# Altium footprint library DIP-CN  0607.PcbLib: 329 footprints (part 19 of 21)
Each footprint in its own frame and in the unit in brackets; x right, y up, seen from the top. Pads: shape width x height; smd on the part's side, far side on the other; paste and mask are expansions set on the pad; w line width, h text height; cw(c..) or ccw(c..) is an arc to the next point about the centre after c.
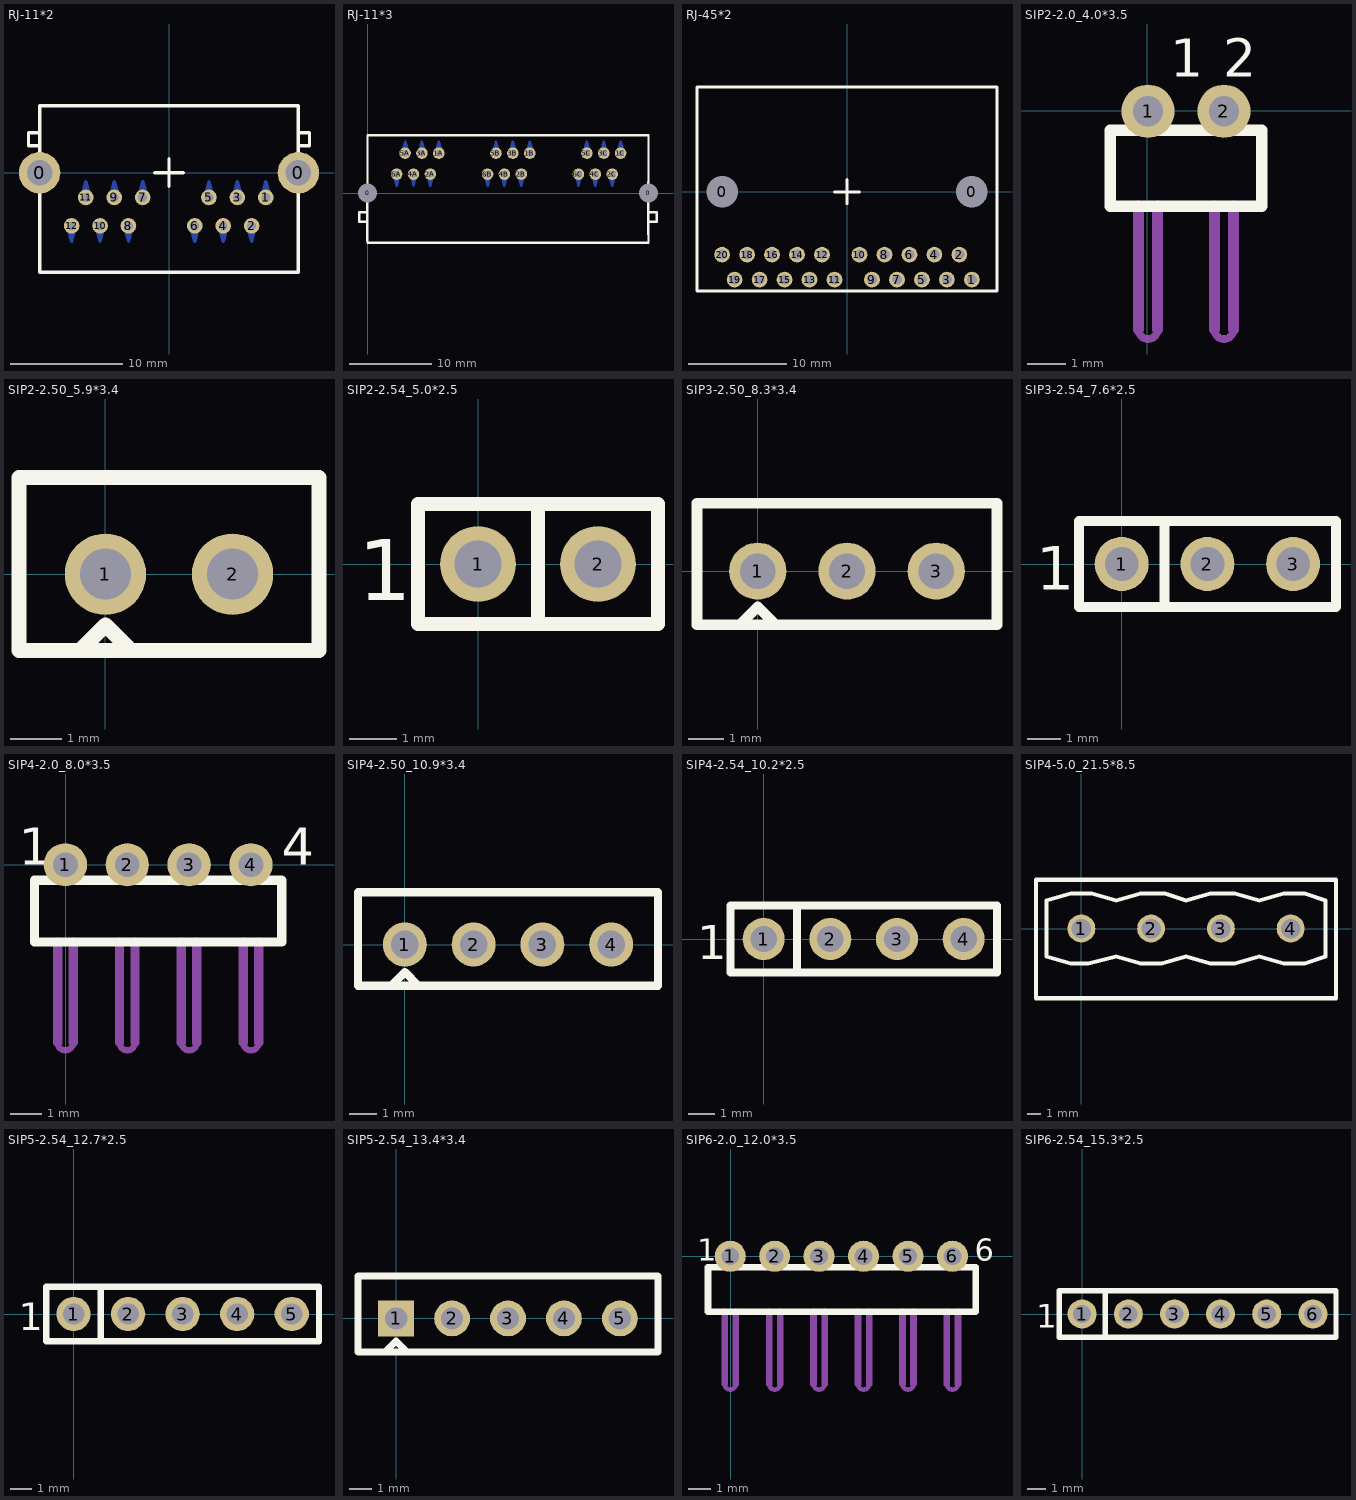
[diagram p18: the footprints below, top view; thin cyan lines are the x and y axes]

## RJ-11*2 [mm]
pads (14):
  round 3.7 hole 2.3: 0(-11.55,0) 0(11.55,0)
  round 1.4 hole 0.8: 1(8.648,-2.204) 2(7.378,-4.744) 3(6.108,-2.204) 4(4.838,-4.744) 5(3.568,-2.204) 6(2.298,-4.744) 7(-2.352,-2.204) 8(-3.622,-4.744) 9(-4.892,-2.204) 10(-6.162,-4.744) 11(-7.432,-2.204) 12(-8.702,-4.744)
BottomLayer:
  lines w0.3: -9.108,-4.744 -8.702,-6.144 ; -8.702,-4.744 -8.702,-6.144 ; -8.321,-4.744 -8.702,-6.144 ; -7.813,-2.204 -7.432,-0.804 ; -7.432,-2.204 -7.432,-0.804 ; -7.026,-2.204 -7.432,-0.804 ; -6.568,-4.744 -6.162,-6.144 ; -6.162,-4.744 -6.162,-6.144 ; -5.781,-4.744 -6.162,-6.144 ; -5.273,-2.204 -4.892,-0.804 ; -4.892,-2.204 -4.892,-0.804 ; -4.486,-2.204 -4.892,-0.804 ; -4.028,-4.744 -3.622,-6.144 ; -3.622,-4.744 -3.622,-6.144 ; -3.241,-4.744 -3.622,-6.144 ; -2.733,-2.204 -2.352,-0.804 ; -2.352,-2.204 -2.352,-0.804 ; -1.946,-2.204 -2.352,-0.804 ; 1.892,-4.744 2.298,-6.144 ; 2.298,-4.744 2.298,-6.144 ; 2.679,-4.744 2.298,-6.144 ; 3.187,-2.204 3.568,-0.804 ; 3.568,-2.204 3.568,-0.804 ; 3.974,-2.204 3.568,-0.804 ; 4.432,-4.744 4.838,-6.144 ; 4.838,-4.744 4.838,-6.144 ; 5.219,-4.744 4.838,-6.144 ; 5.727,-2.204 6.108,-0.804 ; 6.108,-2.204 6.108,-0.804 ; 6.514,-2.204 6.108,-0.804 ; 6.972,-4.744 7.378,-6.144 ; 7.378,-4.744 7.378,-6.144 ; 7.759,-4.744 7.378,-6.144 ; 8.267,-2.204 8.648,-0.804 ; 8.648,-2.204 8.648,-0.804 ; 9.054,-2.204 8.648,-0.804
TopOverlay:
  lines w0.3: -11.55,2.425 -12.55,2.425 -12.55,3.575 -11.55,3.575 ; -1.27,0 1.27,0 ; 0,-1.2 0,1.27 ; 11.55,2.425 12.55,2.425 12.55,3.575 11.55,3.575 ; -11.55,-8.9 11.55,-8.9 11.55,6 -11.55,6 -11.55,-8.9
BottomOverlay:
  lines w0.3: -8.702,-0.705 -8.702,-3.474 -2.352,-3.474 -2.352,-6.09 ; -7.432,-6.09 -7.432,-3.474 ; -6.162,-3.474 -6.162,-0.731 ; -4.892,-6.09 -4.892,-3.474 ; -3.622,-3.474 -3.622,-0.782 ; 2.298,-0.705 2.298,-3.474 8.648,-3.474 8.648,-6.09 ; 3.568,-6.09 3.568,-3.474 ; 4.838,-3.474 4.838,-0.731 ; 6.108,-6.09 6.108,-3.474 ; 7.378,-3.474 7.378,-0.782
BottomSolder:
  lines w0.3: -9.134,-4.744 -8.702,-6.144 ; -8.702,-4.744 -8.702,-6.144 ; -8.27,-4.744 -8.702,-6.144 ; -7.864,-2.204 -7.432,-0.804 ; -7.432,-2.204 -7.432,-0.804 ; -7,-2.204 -7.432,-0.804 ; -6.594,-4.744 -6.162,-6.144 ; -6.162,-4.744 -6.162,-6.144 ; -5.73,-4.744 -6.162,-6.144 ; -5.324,-2.204 -4.892,-0.804 ; -4.892,-2.204 -4.892,-0.804 ; -4.46,-2.204 -4.892,-0.804 ; -4.054,-4.744 -3.622,-6.144 ; -3.622,-4.744 -3.622,-6.144 ; -3.19,-4.744 -3.622,-6.144 ; -2.784,-2.204 -2.352,-0.804 ; -2.352,-2.204 -2.352,-0.804 ; -1.92,-2.204 -2.352,-0.804 ; 1.866,-4.744 2.298,-6.144 ; 2.298,-4.744 2.298,-6.144 ; 2.73,-4.744 2.298,-6.144 ; 3.136,-2.204 3.568,-0.804 ; 3.568,-2.204 3.568,-0.804 ; 4,-2.204 3.568,-0.804 ; 4.406,-4.744 4.838,-6.144 ; 4.838,-4.744 4.838,-6.144 ; 5.27,-4.744 4.838,-6.144 ; 5.676,-2.204 6.108,-0.804 ; 6.108,-2.204 6.108,-0.804 ; 6.54,-2.204 6.108,-0.804 ; 6.946,-4.744 7.378,-6.144 ; 7.378,-4.744 7.378,-6.144 ; 7.81,-4.744 7.378,-6.144 ; 8.216,-2.204 8.648,-0.804 ; 8.648,-2.204 8.648,-0.804 ; 9.08,-2.204 8.648,-0.804

## RJ-11*3 [mm]
pads (20):
  round 1 hole 2.3: 0(0,0) 0(34,0)
  round 1.4 hole 0.8: 1A(8.625,4.84) 1B(19.625,4.84) 1C(30.625,4.84) 2A(7.605,2.3) 2B(18.605,2.3) 2C(29.605,2.3) 3A(6.585,4.84) 3B(17.585,4.84) 3C(28.585,4.84) 4A(5.565,2.3) 4B(16.565,2.3) 4C(27.565,2.3) 5A(4.545,4.84) 5B(15.545,4.84) 5C(26.545,4.84) 6A(3.525,2.3) 6B(14.525,2.3) 6C(25.525,2.3)
BottomLayer:
  lines w0.3: 3.119,2.3 3.525,0.9 ; 3.525,2.3 3.525,0.9 ; 3.906,2.3 3.525,0.9 ; 4.164,4.84 4.19,4.937 4.545,6.24 ; 4.545,4.84 4.545,6.24 ; 4.951,4.84 4.92,4.949 4.545,6.24 ; 5.159,2.3 5.565,0.9 ; 5.565,2.3 5.565,0.9 ; 5.946,2.3 5.565,0.9 ; 6.204,4.84 6.585,6.24 ; 6.585,4.84 6.585,6.24 ; 6.991,4.84 6.585,6.24 ; 7.199,2.3 7.605,0.9 ; 7.605,2.3 7.605,0.9 ; 7.986,2.3 7.605,0.9 ; 8.244,4.84 8.625,6.24 ; 8.625,4.84 8.625,6.24 ; 9.031,4.84 8.625,6.24 ; 14.119,2.3 14.525,0.9 ; 14.525,2.3 14.525,0.9 ; 14.906,2.3 14.525,0.9 ; 15.164,4.84 15.19,4.937 15.545,6.24 ; 15.545,4.84 15.545,6.24 ; 15.951,4.84 15.92,4.949 15.545,6.24 ; 16.159,2.3 16.565,0.9 ; 16.565,2.3 16.565,0.9 ; 16.946,2.3 16.565,0.9 ; 17.204,4.84 17.585,6.24 ; 17.585,4.84 17.585,6.24 ; 17.991,4.84 17.585,6.24 ; 18.199,2.3 18.605,0.9 ; 18.605,2.3 18.605,0.9 ; 18.986,2.3 18.605,0.9 ; 19.244,4.84 19.625,6.24 ; 19.625,4.84 19.625,6.24 ; 20.031,4.84 19.625,6.24 ; 25.119,2.3 25.525,0.9 ; 25.525,2.3 25.525,0.9 ; 25.906,2.3 25.525,0.9 ; 26.164,4.84 26.545,6.24 ; 26.545,4.84 26.545,6.24 ; 26.951,4.84 26.545,6.24 ; 27.159,2.3 27.565,0.9 ; 27.565,2.3 27.565,0.9 ; 27.946,2.3 27.565,0.9 ; 28.204,4.84 28.23,4.937 28.585,6.24 ; 28.585,4.84 28.585,6.24 ; 28.991,4.84 28.96,4.949 28.585,6.24 ; 29.199,2.3 29.605,0.9 ; 29.605,2.3 29.605,0.9 ; 29.986,2.3 29.605,0.9 ; 30.244,4.84 30.625,6.24 ; 30.625,4.84 30.625,6.24 ; 31.031,4.84 30.625,6.24
TopOverlay:
  lines w0.3: -0.019,-3.479 -1,-3.479 -1,-2.329 -0.001,-2.329 ; 0,-4.4 0,-2.9 ; 34.009,-3.479 35,-3.479 35,-2.329 ; 34.011,-2.329 34.997,-2.329 ; -0.014,-5.724 0,7 34,7 33.997,-4.2 34,-6 0,-6 -0.014,-5.724
BottomOverlay:
  lines w0.3: 3.025,3.565 9.025,3.565 ; 4.541,0.673 4.543,3.565 ; 5.557,3.585 5.559,6.477 ; 6.573,0.673 6.575,3.565 ; 7.589,3.585 7.591,6.477 ; 14.025,3.565 20.025,3.565 ; 15.541,0.673 15.543,3.565 ; 16.557,3.585 16.559,6.477 ; 17.573,0.673 17.575,3.565 ; 18.589,3.585 18.591,6.477 ; 25.025,3.565 31.025,3.565 ; 26.541,0.673 26.543,3.565 ; 27.557,3.585 27.559,6.477 ; 28.573,0.673 28.575,3.565 ; 29.589,3.585 29.591,6.477
  text "1" at 31.986,4.419 h1.1
  text "1" at 21.064,4.419 h1.1
  text "1" at 9.888,4.419 h1.1
BottomSolder:
  lines w0.3: 3.093,2.3 3.525,0.9 ; 3.525,2.3 3.525,0.9 ; 3.957,2.3 3.525,0.9 ; 4.113,4.84 4.545,6.24 ; 4.545,4.84 4.545,6.24 ; 4.977,4.84 4.545,6.24 ; 5.133,2.3 5.565,0.9 ; 5.565,2.3 5.565,0.9 ; 5.997,2.3 5.565,0.9 ; 6.153,4.84 6.585,6.24 ; 6.585,4.84 6.585,6.24 ; 7.017,4.84 6.585,6.24 ; 7.173,2.3 7.605,0.9 ; 7.605,2.3 7.605,0.9 ; 8.037,2.3 7.605,0.9 ; 8.193,4.84 8.625,6.24 ; 8.625,4.84 8.625,6.24 ; 9.057,4.84 8.625,6.24 ; 14.093,2.3 14.525,0.9 ; 14.525,2.3 14.525,0.9 ; 14.957,2.3 14.525,0.9 ; 15.113,4.84 15.545,6.24 ; 15.545,4.84 15.545,6.24 ; 15.977,4.84 15.545,6.24 ; 16.133,2.3 16.565,0.9 ; 16.565,2.3 16.565,0.9 ; 16.997,2.3 16.565,0.9 ; 17.153,4.84 17.585,6.24 ; 17.585,4.84 17.585,6.24 ; 18.017,4.84 17.585,6.24 ; 18.173,2.3 18.605,0.9 ; 18.605,2.3 18.605,0.9 ; 19.037,2.3 18.605,0.9 ; 19.193,4.84 19.625,6.24 ; 19.625,4.84 19.625,6.24 ; 20.057,4.84 19.625,6.24 ; 25.093,2.3 25.525,0.9 ; 25.525,2.3 25.525,0.9 ; 25.957,2.3 25.525,0.9 ; 26.113,4.84 26.545,6.24 ; 26.545,4.84 26.545,6.24 ; 26.977,4.84 26.545,6.24 ; 27.133,2.3 27.565,0.9 ; 27.565,2.3 27.565,0.9 ; 27.997,2.3 27.565,0.9 ; 28.153,4.84 28.585,6.24 ; 28.585,4.84 28.585,6.24 ; 29.017,4.84 28.585,6.24 ; 29.173,2.3 29.605,0.9 ; 29.605,2.3 29.605,0.9 ; 30.037,2.3 29.605,0.9 ; 30.193,4.84 30.625,6.24 ; 30.625,4.84 30.625,6.24 ; 31.057,4.84 30.625,6.24

## RJ-45*2 [mm]
pads (22):
  round 2 hole 3.2 unplated: 0(-12.7,0) 0(12.7,0)
  round 1.6 hole 1: 1(12.7,-8.91) 2(11.43,-6.37) 3(10.16,-8.91) 4(8.89,-6.37) 5(7.62,-8.91) 6(6.35,-6.37) 7(5.08,-8.91) 8(3.81,-6.37) 9(2.54,-8.91) 10(1.27,-6.37) 11(-1.27,-8.91) 12(-2.54,-6.37) 13(-3.81,-8.91) 14(-5.08,-6.37) 15(-6.35,-8.91) 16(-7.62,-6.37) 17(-8.89,-8.91) 18(-10.16,-6.37) 19(-11.43,-8.91) 20(-12.7,-6.37)
TopOverlay:
  lines w0.3: -1.27,0 1.27,0 ; 0,-1.2 0,1.27 ; -15.25,-10.051 15.25,-10.051 15.25,10.65 -15.25,10.65 -15.25,-10.051

## SIP2-2.0_4.0*3.5 [mm]
pads (2):
  round 1.4 hole 0.8: 1(0.02,-0.008) 2(2.02,-0.008)
TopOverlay:
  lines w0.3: -0.98,-2.508 3.02,-2.508 3.02,-0.508 -0.98,-0.508 -0.98,-2.508
  text "1" at 0.608,0.894 h1
  text "2" at 2.008,0.894 h1
BottomOverlay:
  lines w0.3: 1.02,-0.758 1.02,0.742
Mechanical7:
  lines w0.2: -0.23,-5.758 ccw(c0.02,-5.758) 0.27,-5.758 ; 1.77,-5.758 ccw(c2.02,-5.758) 2.27,-5.758
  lines w0.3: -0.23,-5.758 -0.23,-2.508 ; 0.27,-5.758 0.27,-2.508 ; 1.77,-5.758 1.77,-2.508 ; 2.27,-5.758 2.27,-2.508

## SIP2-2.50_5.9*3.4 [mm]
pads (2):
  round 1.6 hole 1: 1(0,0) 2(2.5,0)
TopOverlay:
  lines w0.3: 0.5,-1.5 0,-1 ; -0.5,-1.5 -0.5,-1.5 ; -0.5,-1.5 0,-1 ; 0,-1 0,-1 ; -1.7,-1.5 -1.7,1.9 4.2,1.9 4.2,-1.5 -1.7,-1.5

## SIP2-2.54_5.0*2.5 [mm]
pads (2):
  round 1.6 hole 1: 1(0,0) 2(2.54,0)
TopOverlay:
  lines w0.3: 1.27,-1.27 1.27,1.27 ; -1.27,-1.27 3.81,-1.27 3.81,1.27 -1.27,1.27 -1.27,-1.27
  text "1" at -2.54,-0.762 h1.3
BottomOverlay:
  lines w0.3: 1.27,-1.016 1.27,1.016

## SIP3-2.50_8.3*3.4 [mm]
pads (3):
  round 1.6 hole 1: 1(0,0) 2(2.5,0) 3(5,0)
TopOverlay:
  lines w0.3: 0.5,-1.5 0,-1 ; -0.5,-1.5 -0.5,-1.5 ; -0.5,-1.5 0,-1 ; 0,-1 0,-1 ; -1.7,-1.5 6.7,-1.5 6.7,1.9 -1.7,1.9 -1.7,-1.5

## SIP3-2.54_7.6*2.5 [mm]
pads (3):
  round 1.6 hole 1: 1(0,0) 2(2.54,0) 3(5.08,0)
TopOverlay:
  lines w0.3: 1.27,-1.27 1.27,1.27 ; -1.27,-1.27 -1.27,1.27 6.35,1.27 6.35,-1.27 -1.27,-1.27
  text "1" at -2.54,-0.762 h1.3
BottomOverlay:
  lines w0.3: 1.27,-1.016 1.27,1.016 ; 3.81,-1.016 3.81,1.016

## SIP4-2.0_8.0*3.5 [mm]
pads (4):
  round 1.4 hole 0.8: 1(-0.012,-0.006) 2(1.988,-0.006) 3(3.988,-0.006) 4(5.988,-0.006)
TopOverlay:
  lines w0.3: -1.012,-2.506 -1.012,-0.506 6.988,-0.506 6.988,-2.506 -1.012,-2.506
  text "4" at 6.988,-0.006 h1.2
  text "1" at -1.512,-0.006 h1.2
BottomOverlay:
  lines w0.3: 0.988,-0.756 0.988,0.744 ; 2.988,-0.756 2.988,0.744 ; 4.988,-0.756 4.988,0.744
Mechanical7:
  lines w0.2: -0.262,-5.756 ccw(c-0.012,-5.756) 0.238,-5.756 ; 1.738,-5.756 ccw(c1.988,-5.756) 2.238,-5.756 ; 3.738,-5.756 ccw(c3.988,-5.756) 4.238,-5.756 ; 5.738,-5.756 ccw(c5.988,-5.756) 6.238,-5.756
  lines w0.3: -0.262,-5.756 -0.262,-2.506 ; 0.238,-5.756 0.238,-2.506 ; 1.738,-5.756 1.738,-2.506 ; 2.238,-5.756 2.238,-2.506 ; 3.738,-5.756 3.738,-2.506 ; 4.238,-5.756 4.238,-2.506 ; 5.738,-5.756 5.738,-2.506 ; 6.238,-5.756 6.238,-2.506

## SIP4-2.50_10.9*3.4 [mm]
pads (4):
  round 1.6 hole 1: 1(0,0) 2(2.5,0) 3(5,0) 4(7.5,0)
TopOverlay:
  lines w0.3: 0.5,-1.5 0,-1 ; -0.5,-1.5 -0.5,-1.5 ; -0.5,-1.5 0,-1 ; 0,-1 0,-1 ; -1.7,-1.5 9.2,-1.5 9.2,1.9 -1.7,1.9 -1.7,-1.5

## SIP4-2.54_10.2*2.5 [mm]
pads (4):
  round 1.6 hole 1: 1(0,0) 2(2.54,0) 3(5.08,0) 4(7.62,0)
TopOverlay:
  lines w0.3: 1.27,-1.27 1.27,1.27 ; -1.27,-1.27 -1.27,1.27 8.89,1.27 8.89,-1.27 -1.27,-1.27
  text "1" at -2.54,-0.762 h1.3
BottomOverlay:
  lines w0.3: 1.27,-1.016 1.27,1.016 ; 3.81,-1.016 3.81,1.016 ; 6.35,-1.016 6.35,1.016

## SIP4-5.0_21.5*8.5 [mm]
pads (4):
  round 2 hole 1.4: 1(0,0) 2(5,0) 3(10,0) 4(15,0)
TopOverlay:
  lines w0.3: -3.25,-5 18.25,-5 18.25,3.5 -3.25,3.5 -3.25,-5 ; -2.5,-2 -2.5,2 -0.75,2.5 0.75,2.5 2.5,2 4.25,2.5 6,2.5 7.5,2 9.25,2.5 11,2.5 12.75,2 14.5,2.5 16,2.5 17.5,2 17.5,-2 16,-2.5 14.5,-2.5 12.75,-2 11,-2.5 9.25,-2.5 7.5,-2 5.75,-2.5 4.25,-2.5 2.5,-2 0.5,-2.5 -0.75,-2.5 -2.5,-2

## SIP5-2.54_12.7*2.5 [mm]
pads (5):
  round 1.6 hole 1: 1(0,0) 2(2.54,0) 3(5.08,0) 4(7.62,0) 5(10.16,0)
TopOverlay:
  lines w0.3: 1.27,-1.27 1.27,1.27 ; -1.27,-1.27 11.43,-1.27 11.43,1.27 -1.27,1.27 -1.27,-1.27
  text "1" at -2.54,-0.762 h1.3
BottomOverlay:
  lines w0.3: 1.27,-1.016 1.27,1.016 ; 3.81,-1.016 3.81,1.016 ; 6.35,-1.016 6.35,1.016 ; 8.89,-1.016 8.89,1.016

## SIP5-2.54_13.4*3.4 [mm]
pads (5):
  rect 1.6x1.6 hole 1: 1(0,0)
  round 1.6 hole 1: 2(2.5,0) 3(5,0) 4(7.5,0) 5(10,0)
TopOverlay:
  lines w0.3: 0.5,-1.5 0,-1 ; -0.5,-1.5 0,-1 ; -0.5,-1.5 -0.5,-1.5 ; 0,-1 0,-1 ; -1.7,-1.5 -1.7,1.9 11.7,1.9 11.7,-1.5 -1.7,-1.5

## SIP6-2.0_12.0*3.5 [mm]
pads (6):
  round 1.4 hole 0.8: 1(-0.014,-0.008) 2(1.986,-0.008) 3(3.986,-0.008) 4(5.986,-0.008) 5(7.986,-0.008) 6(9.986,-0.008)
TopOverlay:
  lines w0.3: 11.04,-2.508 11.04,-0.514 11.035,-0.508 -1.014,-0.508 -1.014,-2.508 11.04,-2.508 ; 11.04,-2.508 11.04,-2.508
  text "1" at -1.509,-0.206 h1
  text "6" at 10.991,-0.206 h1
BottomOverlay:
  lines w0.3: 0.986,-0.758 0.986,0.742 ; 2.986,-0.758 2.986,0.742 ; 4.986,-0.758 4.986,0.742 ; 6.986,-0.758 6.986,0.742 ; 8.986,-0.758 8.986,0.742
Mechanical7:
  lines w0.2: -0.264,-5.758 ccw(c-0.014,-5.758) 0.236,-5.758 ; 1.736,-5.758 ccw(c1.986,-5.758) 2.236,-5.758 ; 3.736,-5.758 ccw(c3.986,-5.758) 4.236,-5.758 ; 5.736,-5.758 ccw(c5.986,-5.758) 6.236,-5.758 ; 7.736,-5.758 ccw(c7.986,-5.758) 8.236,-5.758 ; 9.736,-5.758 ccw(c9.986,-5.758) 10.236,-5.758
  lines w0.3: -0.264,-5.758 -0.264,-2.508 ; 0.236,-5.758 0.236,-2.508 ; 1.736,-5.758 1.736,-2.508 ; 2.236,-5.758 2.236,-2.508 ; 3.736,-5.758 3.736,-2.508 ; 4.236,-5.758 4.236,-2.508 ; 5.736,-5.758 5.736,-2.508 ; 6.236,-5.758 6.236,-2.508 ; 7.736,-5.758 7.736,-2.508 ; 8.236,-5.758 8.236,-2.508 ; 9.736,-5.758 9.736,-2.508 ; 10.236,-5.758 10.236,-2.508
  text "T<=1.2" at -0.514,-2.408 h0.5

## SIP6-2.54_15.3*2.5 [mm]
pads (6):
  round 1.6 hole 1: 1(0,0) 2(2.54,0) 3(5.08,0) 4(7.62,0) 5(10.16,0) 6(12.7,0)
TopOverlay:
  lines w0.3: 1.27,-1.27 1.27,1.27 ; -1.27,-1.27 -1.27,1.27 13.97,1.27 13.97,-1.27 -1.27,-1.27
  text "1" at -2.54,-0.762 h1.3
BottomOverlay:
  lines w0.3: 1.27,-1.016 1.27,1.016 ; 3.81,-1.016 3.81,1.016 ; 6.35,-1.016 6.35,1.016 ; 8.89,-1.016 8.89,1.016 ; 11.43,-1.016 11.43,1.016